# Altium schematic symbol library TOP25xP.SchLib: 1 symbol
Pins are listed as number, name and electrical type; pins without a type are passive.

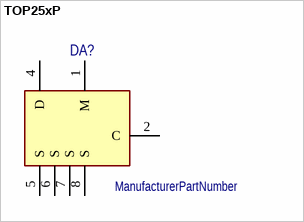
[diagram p0: symbol TOP25xP]

## TOP25xP
designator DA?  (value not drawn)
ManufacturerPartNumber: ManufacturerPartNumber
pins: 1 M, 2 C, 4 D, 5 S, 6 S, 7 S, 8 S